# Altium footprint library PCB - RESISTOR - CHIP - VISHAY WSHP2818.PCBLIB: 1 footprints
Each footprint in its own frame and in the unit in brackets; x right, y up, seen from the top. Pads: shape width x height; smd on the part's side, far side on the other; paste and mask are expansions set on the pad; w line width, h text height; cw(c..) or ccw(c..) is an arc to the next point about the centre after c.
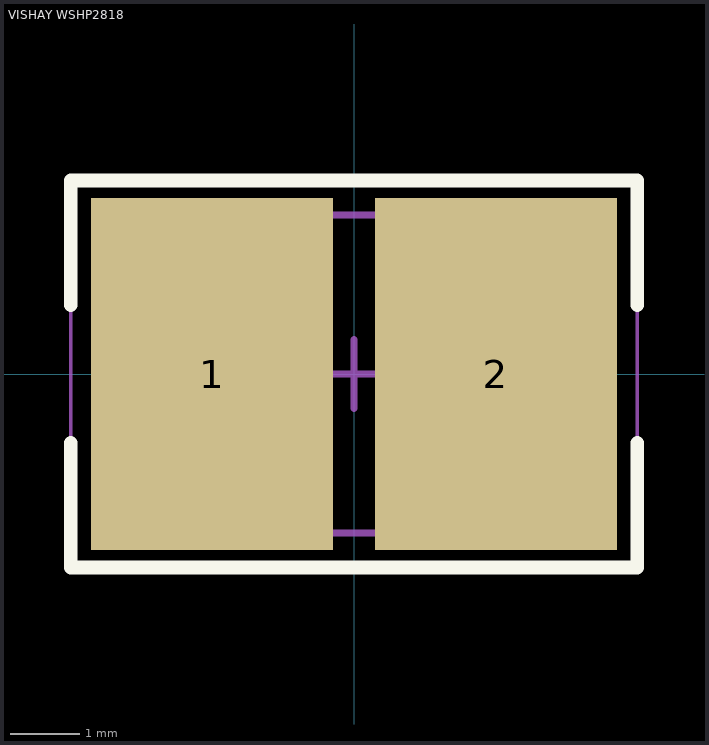
[diagram p0: the footprint, top view; thin cyan lines are the x and y axes]

## VISHAY WSHP2818 [mm] "Chip Resistor, 2-Leads, Body 7.10x4.60mm, IPC Medium Density"
height 1.75
pads (2):
  rect 3.5x5.1 smd: 1(-2.055,0) 2(2.055,0)
Top Overlay:
  lines w0.2: -4.1,-1 -4.1,-2.8 4.1,-2.8 4.1,-1 ; -4.1,1 -4.1,2.8 4.1,2.8 4.1,1
Mechanical 13:
  lines w0.1: -3.5,-2.3 -3.5,2.3 3.5,2.3 3.5,-2.3 -3.5,-2.3
Mechanical 15:
  lines w0.05: -4.1,-2.8 -4.1,2.8 4.1,2.8 4.1,-2.8 -4.1,-2.8
  lines w0.1: -0.5,0 0.5,0 ; 0,-0.5 0,0.5
3D body "VISHAY WSHP2818.step": height 1.5, standoff 0, extent -3.55,-2.3 3.55,2.3